# EAGLE library part L20G20IS (library LinnesLab-Sensors)
EAGLE model for the L20G20IS gyroscope. Pins are set up as seen from top-view.
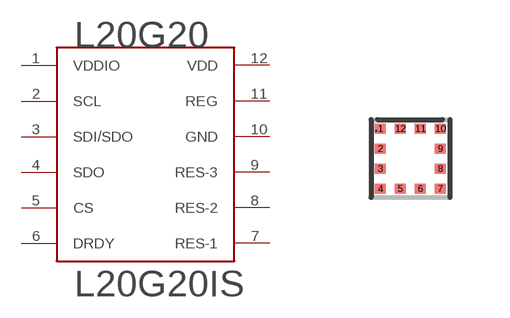
[diagram p23: symbol with the pads of L20G20IS; footprint L20G20IS]

Designator prefix L20G20

## L20G20ISSMD  [L20G20IS]
1  VDDIO
2  SCL
3  SDI/SDO
4  SDO
5  CS
6  DRDY
7  RES-1  nc
8  RES-2
9  RES-3
10  GND
11  REG
12  VDD

## Footprint L20G20IS (pad centres in mm)
smd 0.275 x 0.25: 1 -0.75,0.75; 2 -0.75,0.25; 3 -0.75,-0.25; 4 -0.75,-0.75; 5 -0.25,-0.75; 6 0.25,-0.75; 7 0.75,-0.75; 8 0.75,-0.25; 9 0.75,0.25; 10 0.75,0.75; 11 0.25,0.75; 12 -0.25,0.75